# Altium integrated library TS3USB221RSER.IntLib: 1 symbol
Pins are listed as number, name and electrical type; pins without a type are passive.

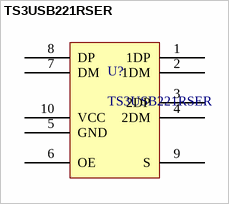
[diagram p0: symbol TS3USB221RSER]

## TS3USB221RSER
designator U?
USB Switch, 2:1, TI
footprint PQFN50P150X200X60-10N (PQFN, 10-Leads, Body 1.50x2.00mm, Pitch 0.50mm, IPC Medium Density)
pins: 1 1DP, 2 1DM, 3 2DP, 4 2DM, 5 GND, 6 OE, 7 DM, 8 DP, 9 S, 10 VCC